# EAGLE library part PIC16F1823-X_SL (library wirelessSensor)
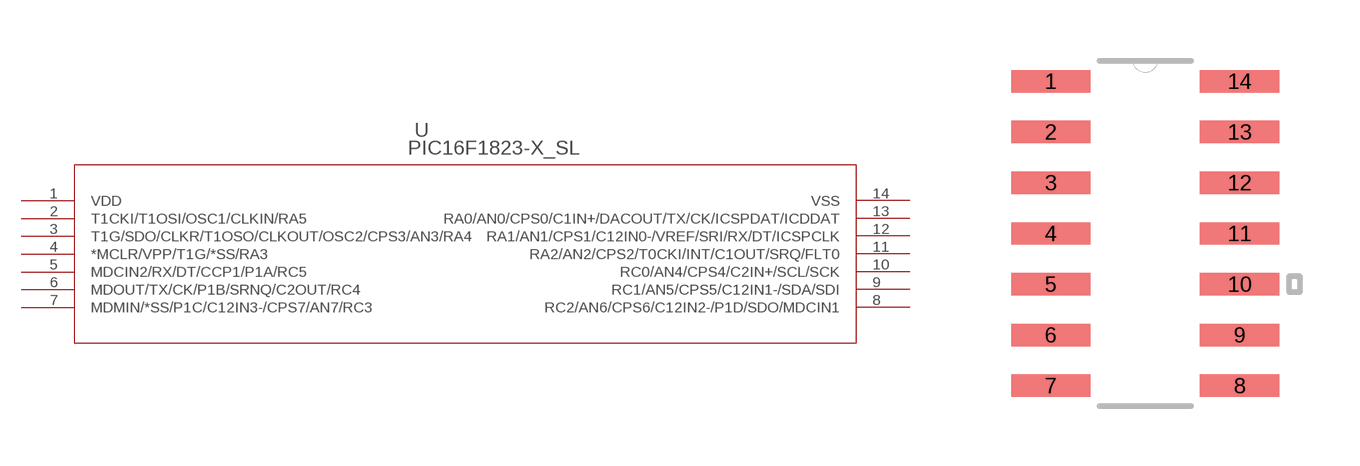
[diagram p0: symbol with the pads of SOIC14-N_MC; footprint SOIC14-N_MC]

Designator prefix U

## PIC16F1823-X_SL  [SOIC14-N_MC]
1  VDD  pwr
2  T1CKI/T1OSI/OSC1/CLKIN/RA5
3  T1G/SDO/CLKR/T1OSO/CLKOUT/OSC2/CPS3/AN3/RA4
4  *MCLR/VPP/T1G/*SS/RA3
5  MDCIN2/RX/DT/CCP1/P1A/RC5
6  MDOUT/TX/CK/P1B/SRNQ/C2OUT/RC4
7  MDMIN/*SS/P1C/C12IN3-/CPS7/AN7/RC3
8  RC2/AN6/CPS6/C12IN2-/P1D/SDO/MDCIN1
9  RC1/AN5/CPS5/C12IN1-/SDA/SDI
10  RC0/AN4/CPS4/C2IN+/SCL/SCK
11  RA2/AN2/CPS2/T0CKI/INT/C1OUT/SRQ/FLT0
12  RA1/AN1/CPS1/C12IN0-/VREF/SRI/RX/DT/ICSPCLK
13  RA0/AN0/CPS0/C1IN+/DACOUT/TX/CK/ICSPDAT/ICDDAT
14  VSS  pwr

## Footprint SOIC14-N_MC (pad centres in mm)
smd 1.981 x 0.559: 1 -2.362,3.81; 2 -2.362,2.54; 3 -2.362,1.27; 4 -2.362,0; 5 -2.362,-1.27; 6 -2.362,-2.54; 7 -2.362,-3.81; 8 2.362,-3.81; 9 2.362,-2.54; 10 2.362,-1.27; 11 2.362,0; 12 2.362,1.27; 13 2.362,2.54; 14 2.362,3.81